# Altium schematic symbol library Generic 1210 Capacitor.SchLib: 1 symbol
Pins are listed as number, name and electrical type; pins without a type are passive.

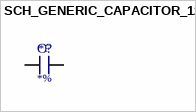
[diagram p0: symbol SCH_GENERIC_CAPACITOR_1210]

## SCH_GENERIC_CAPACITOR_1210
designator C?  Tolerance: *%  Capacitance: *F  (hidden comment: SCH_GENERIC_CAPACITOR_1210)
Generic SMD capacitor 1210
footprint PCB_GENERIC_CAPACITOR_1210 (Chip Capacitor, 2-Leads, Body 3.20x2.50mm, IPC Medium Density)
pins: 1, 2